# Altium schematic symbol library kmilo17pet-NSC_Switcher.SchLib: 2226 symbols (part 44 of 59)
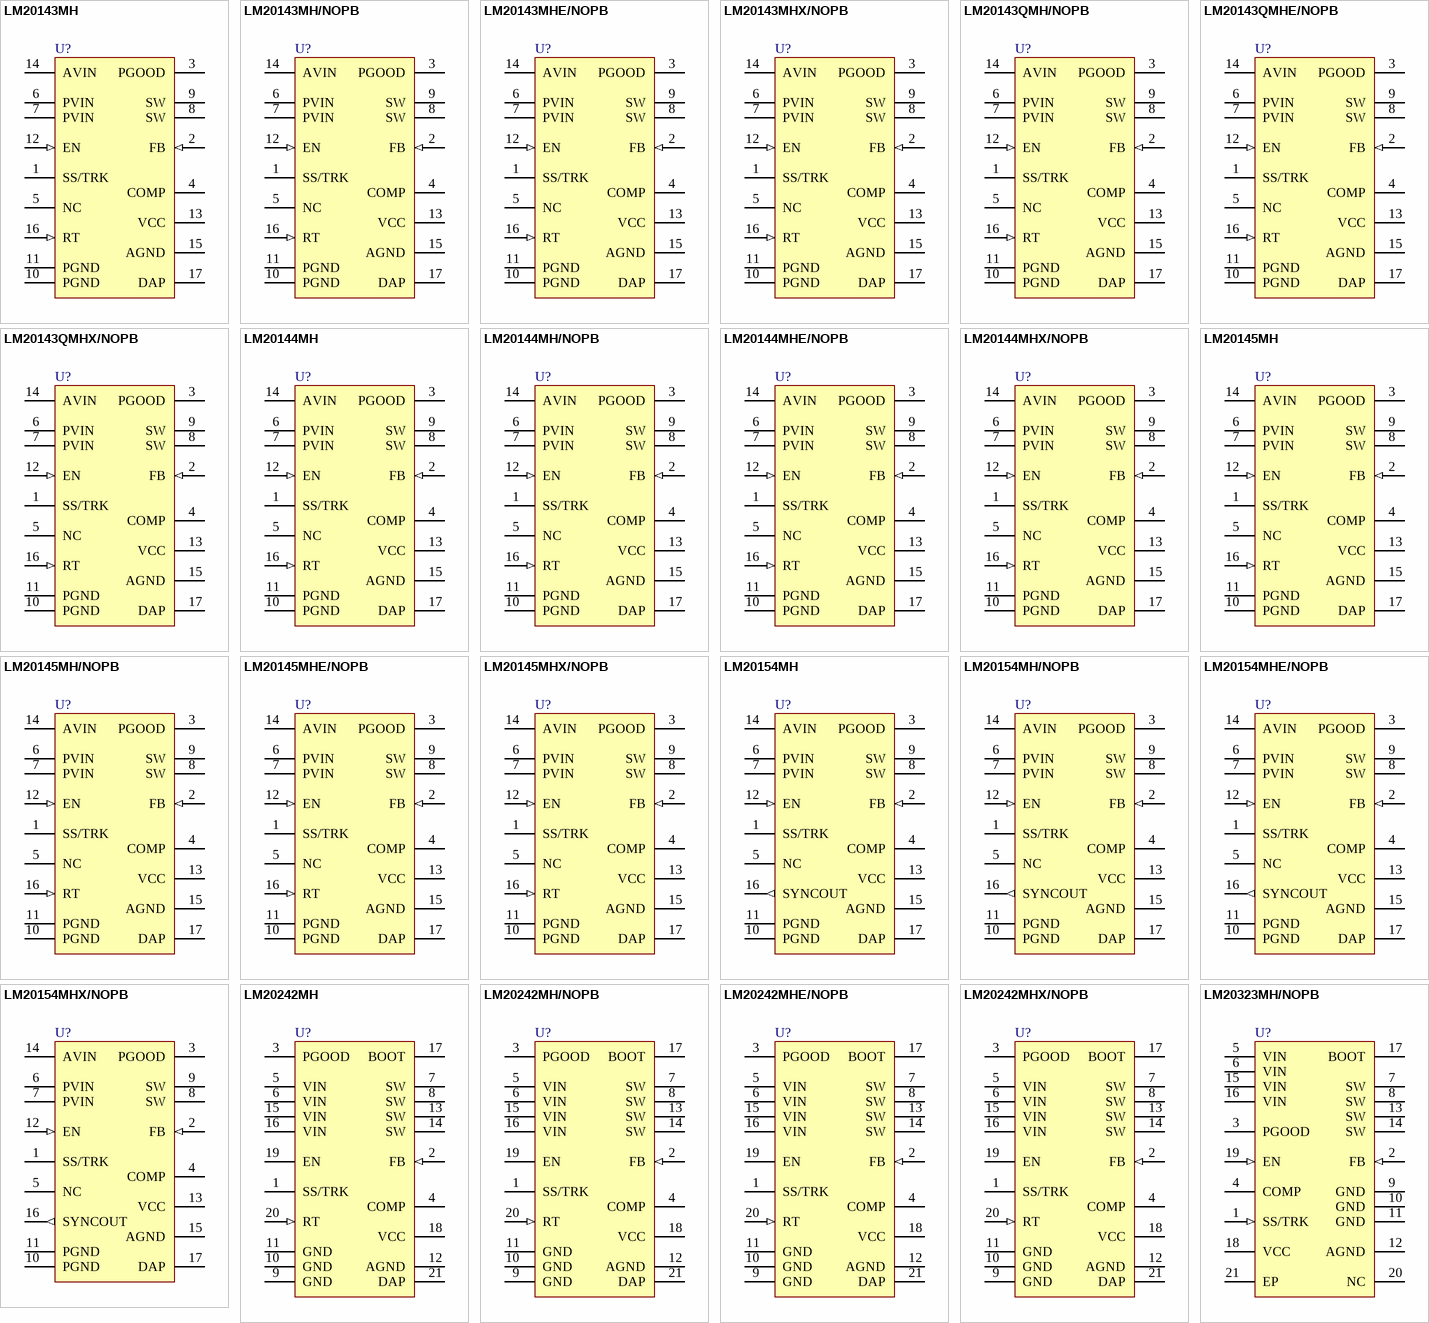
[diagram p112: symbols LM20143MH to LM20323MH/NOPB]

## LM20145MHX/NOPB
designator U?
5A, PowerWise Adjustable Frequency Synchronous Buck Regulator, 16-pin TSSOP-EP, Pb-Free; PartNumber: LM20145MHX/NOPB; Manufacturer: National Semiconductor; PackageTopMarking: NSUZXYTT*20145*MH; PowerWise: Y; CompType: Switcher; DatasheetVersion: Jan-2008; PackageVersion: revA, Apr-2003; PackageReference: MXA16A; PackageDescription: Molded TSSOP, Jedec, Exposed Pad, 5.0 x 4.4 x 0.9mm Body,16 Lead, 0.65mm Pitch; RoHS: Y; PinCount: 16; High-Reliability: Y; Code_JEDEC: MO-153-ABT; ComponentLink1Description: Manufacturer URL; ComponentLink1URL: http://www.national.com/; ComponentLink2Description: LM20145 Datasheet; ComponentLink2URL: http://www.national.com/ds/LM/LM20145.pdf; ComponentLink3Description: LM20145 Web Page; ComponentLink3URL: http://www.national.com/pf/LM/LM20145.html; ComponentLink4Description: MXA16A Package Page; ComponentLink4URL: http://www.national.com/packaging/folders/mxa16a.html
footprint MXA16A_N (TSOP, 16-Leads, Body 5x4.4mm, Pitch 0.65mm, Thermal Pad, IPC Medium Density)
footprint MXA16A_L (TSOP, 16-Leads, Body 5x4.4mm, Pitch 0.65mm, Thermal Pad, IPC High Density)
footprint MXA16A_M (TSOP, 16-Leads, Body 5x4.4mm, Pitch 0.65mm, Thermal Pad, IPC Low Density)
pins: 1 SS/TRK, 2 FB (in), 3 PGOOD (oc), 4 COMP, 5 NC, 6 PVIN (power), 7 PVIN (power), 8 SW (power), 9 SW (power), 10 PGND (power), 11 PGND (power), 12 EN (in), 13 VCC (power), 14 AVIN (power), 15 AGND (power), 16 RT (in), 17 DAP (power)

## LM20154MH
designator U?
4A, 1MHz PowerWise Synchronous Buck Regulator with SYNCOUT, 16-pin TSSOP-EP; PartNumber: LM20154MH; Manufacturer: National Semiconductor; PackageTopMarking: NSUZXYTT*20154*MH; PowerWise: Y; CompType: Switcher; DatasheetVersion: Dec-2008; PackageVersion: revA, Apr-2003; PackageReference: MXA16A; PackageDescription: Molded TSSOP, Jedec, Exposed Pad, 5.0 x 4.4 x 0.9mm Body,16 Lead, 0.65mm Pitch; RoHS: Y; PinCount: 16; High-Reliability: Y; Code_JEDEC: MO-153-ABT; ComponentLink1Description: Manufacturer URL; ComponentLink1URL: http://www.national.com/; ComponentLink2Description: LM20154 Datasheet; ComponentLink2URL: http://www.national.com/ds/LM/LM20154.pdf; ComponentLink3Description: LM20154 Web Page; ComponentLink3URL: http://www.national.com/pf/LM/LM20154.html; ComponentLink4Description: MXA16A Package Page; ComponentLink4URL: http://www.national.com/packaging/folders/mxa16a.html
footprint MXA16A_N (TSOP, 16-Leads, Body 5x4.4mm, Pitch 0.65mm, Thermal Pad, IPC Medium Density)
footprint MXA16A_L (TSOP, 16-Leads, Body 5x4.4mm, Pitch 0.65mm, Thermal Pad, IPC High Density)
footprint MXA16A_M (TSOP, 16-Leads, Body 5x4.4mm, Pitch 0.65mm, Thermal Pad, IPC Low Density)
pins: 1 SS/TRK, 2 FB (in), 3 PGOOD (oc), 4 COMP, 5 NC, 6 PVIN (power), 7 PVIN (power), 8 SW (power), 9 SW (power), 10 PGND (power), 11 PGND (power), 12 EN (in), 13 VCC (power), 14 AVIN (power), 15 AGND (power), 16 SYNCOUT (out), 17 DAP (power)

## LM20154MH/NOPB
designator U?
4A, 1MHz Synchronous Buck Regulator with SYNCOUT, 16-pin TSSOP-EP, Pb-Free; PartNumber: LM20154MH/NOPB; Manufacturer: National Semiconductor; PackageTopMarking: NSUZXYTT*20154*MH; PowerWise: Y; CompType: Switcher; DatasheetVersion: Dec-2008; PackageVersion: revA, Apr-2003; PackageReference: MXA16A; PackageDescription: Molded TSSOP, Jedec, Exposed Pad, 5.0 x 4.4 x 0.9mm Body,16 Lead, 0.65mm Pitch; RoHS: Y; PinCount: 16; High-Reliability: Y; Code_JEDEC: MO-153-ABT; ComponentLink1Description: Manufacturer URL; ComponentLink1URL: http://www.national.com/; ComponentLink2Description: LM20154 Datasheet; ComponentLink2URL: http://www.national.com/ds/LM/LM20154.pdf; ComponentLink3Description: LM20154 Web Page; ComponentLink3URL: http://www.national.com/pf/LM/LM20154.html; ComponentLink4Description: MXA16A Package Page; ComponentLink4URL: http://www.national.com/packaging/folders/mxa16a.html
footprint MXA16A_N (TSOP, 16-Leads, Body 5x4.4mm, Pitch 0.65mm, Thermal Pad, IPC Medium Density)
footprint MXA16A_L (TSOP, 16-Leads, Body 5x4.4mm, Pitch 0.65mm, Thermal Pad, IPC High Density)
footprint MXA16A_M (TSOP, 16-Leads, Body 5x4.4mm, Pitch 0.65mm, Thermal Pad, IPC Low Density)
pins: 1 SS/TRK, 2 FB (in), 3 PGOOD (oc), 4 COMP, 5 NC, 6 PVIN (power), 7 PVIN (power), 8 SW (power), 9 SW (power), 10 PGND (power), 11 PGND (power), 12 EN (in), 13 VCC (power), 14 AVIN (power), 15 AGND (power), 16 SYNCOUT (out), 17 DAP (power)

## LM20154MHE/NOPB
designator U?
4A, 1MHz Synchronous Buck Regulator with SYNCOUT, 16-pin TSSOP-EP, Pb-Free; PartNumber: LM20154MHE/NOPB; Manufacturer: National Semiconductor; PackageTopMarking: NSUZXYTT*20154*MH; PowerWise: Y; CompType: Switcher; DatasheetVersion: Dec-2008; PackageVersion: revA, Apr-2003; PackageReference: MXA16A; PackageDescription: Molded TSSOP, Jedec, Exposed Pad, 5.0 x 4.4 x 0.9mm Body,16 Lead, 0.65mm Pitch; RoHS: Y; PinCount: 16; High-Reliability: Y; Code_JEDEC: MO-153-ABT; ComponentLink1Description: Manufacturer URL; ComponentLink1URL: http://www.national.com/; ComponentLink2Description: LM20154 Datasheet; ComponentLink2URL: http://www.national.com/ds/LM/LM20154.pdf; ComponentLink3Description: LM20154 Web Page; ComponentLink3URL: http://www.national.com/pf/LM/LM20154.html; ComponentLink4Description: MXA16A Package Page; ComponentLink4URL: http://www.national.com/packaging/folders/mxa16a.html
footprint MXA16A_N (TSOP, 16-Leads, Body 5x4.4mm, Pitch 0.65mm, Thermal Pad, IPC Medium Density)
footprint MXA16A_L (TSOP, 16-Leads, Body 5x4.4mm, Pitch 0.65mm, Thermal Pad, IPC High Density)
footprint MXA16A_M (TSOP, 16-Leads, Body 5x4.4mm, Pitch 0.65mm, Thermal Pad, IPC Low Density)
pins: 1 SS/TRK, 2 FB (in), 3 PGOOD (oc), 4 COMP, 5 NC, 6 PVIN (power), 7 PVIN (power), 8 SW (power), 9 SW (power), 10 PGND (power), 11 PGND (power), 12 EN (in), 13 VCC (power), 14 AVIN (power), 15 AGND (power), 16 SYNCOUT (out), 17 DAP (power)

## LM20154MHX/NOPB
designator U?
4A, 1MHz Synchronous Buck Regulator with SYNCOUT, 16-pin TSSOP-EP, Pb-Free; PartNumber: LM20154MHX/NOPB; Manufacturer: National Semiconductor; PackageTopMarking: NSUZXYTT*20154*MH; PowerWise: Y; CompType: Switcher; DatasheetVersion: Dec-2008; PackageVersion: revA, Apr-2003; PackageReference: MXA16A; PackageDescription: Molded TSSOP, Jedec, Exposed Pad, 5.0 x 4.4 x 0.9mm Body,16 Lead, 0.65mm Pitch; RoHS: Y; PinCount: 16; High-Reliability: Y; Code_JEDEC: MO-153-ABT; ComponentLink1Description: Manufacturer URL; ComponentLink1URL: http://www.national.com/; ComponentLink2Description: LM20154 Datasheet; ComponentLink2URL: http://www.national.com/ds/LM/LM20154.pdf; ComponentLink3Description: LM20154 Web Page; ComponentLink3URL: http://www.national.com/pf/LM/LM20154.html; ComponentLink4Description: MXA16A Package Page; ComponentLink4URL: http://www.national.com/packaging/folders/mxa16a.html
footprint MXA16A_N (TSOP, 16-Leads, Body 5x4.4mm, Pitch 0.65mm, Thermal Pad, IPC Medium Density)
footprint MXA16A_L (TSOP, 16-Leads, Body 5x4.4mm, Pitch 0.65mm, Thermal Pad, IPC High Density)
footprint MXA16A_M (TSOP, 16-Leads, Body 5x4.4mm, Pitch 0.65mm, Thermal Pad, IPC Low Density)
pins: 1 SS/TRK, 2 FB (in), 3 PGOOD (oc), 4 COMP, 5 NC, 6 PVIN (power), 7 PVIN (power), 8 SW (power), 9 SW (power), 10 PGND (power), 11 PGND (power), 12 EN (in), 13 VCC (power), 14 AVIN (power), 15 AGND (power), 16 SYNCOUT (out), 17 DAP (power)

## LM20242MH
designator U?
36V, 2A PowerWise Adjustable Frequency Synchronous Buck Regulator, 20-pin TSSOP-EP; PartNumber: LM20242MH; Manufacturer: National Semiconductor; PackageTopMarking: NSUZXYTT*20242*MH; PowerWise: Y; CompType: Switcher; DatasheetVersion: May-2008; PackageVersion: revC, Jul-2006; PackageReference: MXA20A; PackageDescription: Molded TSSOP, Jedec, 6.5 x 4.4 x 0.9mm Body, 20 Lead, 0.65mm Pitch, Exposed Pad; RoHS: Y; PinCount: 20; High-Reliability: Y; Code_JEDEC: MO-153-ACT; ComponentLink1Description: Manufacturer URL; ComponentLink1URL: http://www.national.com/; ComponentLink2Description: LM20242 Datasheet; ComponentLink2URL: http://www.national.com/ds/LM/LM20242.pdf; ComponentLink3Description: LM20242 Web Page; ComponentLink3URL: http://www.national.com/pf/LM/LM20242.html; ComponentLink4Description: MXA20A Package Page; ComponentLink4URL: http://www.national.com/packaging/folders/mxa20a.html
footprint MXA20A_N (TSOP, 20-Leads, Body 6.5x4.4mm, Pitch 0.65mm, Thermal Pad, IPC Medium Density)
footprint MXA20A_L (TSOP, 20-Leads, Body 6.5x4.4mm, Pitch 0.65mm, Thermal Pad, IPC High Density)
footprint MXA20A_M (TSOP, 20-Leads, Body 6.5x4.4mm, Pitch 0.65mm, Thermal Pad, IPC Low Density)
pins: 1 SS/TRK, 2 FB (in), 3 PGOOD (oc), 4 COMP, 5 VIN (power), 6 VIN (power), 7 SW (power), 8 SW (power), 9 GND (power), 10 GND (power), 11 GND (power), 12 AGND (power), 13 SW (power), 14 SW (power), 15 VIN (power), 16 VIN (power), 17 BOOT, 18 VCC (power), 19 EN, 20 RT (in), 21 DAP (power)

## LM20242MH/NOPB
designator U?
36V, 2A PowerWise Adjustable Frequency Synchronous Buck Regulator, 20-pin TSSOP-EP, Pb-Free; PartNumber: LM20242MH/NOPB; Manufacturer: National Semiconductor; PackageTopMarking: NSUZXYTT*20242*MH; PowerWise: Y; CompType: Switcher; DatasheetVersion: May-2008; PackageVersion: revC, Jul-2006; PackageReference: MXA20A; PackageDescription: Molded TSSOP, Jedec, 6.5 x 4.4 x 0.9mm Body, 20 Lead, 0.65mm Pitch, Exposed Pad; RoHS: Y; PinCount: 20; High-Reliability: Y; Code_JEDEC: MO-153-ACT; ComponentLink1Description: Manufacturer URL; ComponentLink1URL: http://www.national.com/; ComponentLink2Description: LM20242 Datasheet; ComponentLink2URL: http://www.national.com/ds/LM/LM20242.pdf; ComponentLink3Description: LM20242 Web Page; ComponentLink3URL: http://www.national.com/pf/LM/LM20242.html; ComponentLink4Description: MXA20A Package Page; ComponentLink4URL: http://www.national.com/packaging/folders/mxa20a.html
footprint MXA20A_N (TSOP, 20-Leads, Body 6.5x4.4mm, Pitch 0.65mm, Thermal Pad, IPC Medium Density)
footprint MXA20A_L (TSOP, 20-Leads, Body 6.5x4.4mm, Pitch 0.65mm, Thermal Pad, IPC High Density)
footprint MXA20A_M (TSOP, 20-Leads, Body 6.5x4.4mm, Pitch 0.65mm, Thermal Pad, IPC Low Density)
pins: 1 SS/TRK, 2 FB (in), 3 PGOOD (oc), 4 COMP, 5 VIN (power), 6 VIN (power), 7 SW (power), 8 SW (power), 9 GND (power), 10 GND (power), 11 GND (power), 12 AGND (power), 13 SW (power), 14 SW (power), 15 VIN (power), 16 VIN (power), 17 BOOT, 18 VCC (power), 19 EN, 20 RT (in), 21 DAP (power)

## LM20242MHE/NOPB
designator U?
36V, 2A PowerWise Adjustable Frequency Synchronous Buck Regulator, 20-pin TSSOP-EP, Pb-Free; PartNumber: LM20242MHE/NOPB; Manufacturer: National Semiconductor; PackageTopMarking: NSUZXYTT*20242*MH; PowerWise: Y; CompType: Switcher; DatasheetVersion: May-2008; PackageVersion: revC, Jul-2006; PackageReference: MXA20A; PackageDescription: Molded TSSOP, Jedec, 6.5 x 4.4 x 0.9mm Body, 20 Lead, 0.65mm Pitch, Exposed Pad; RoHS: Y; PinCount: 20; High-Reliability: Y; Code_JEDEC: MO-153-ACT; ComponentLink1Description: Manufacturer URL; ComponentLink1URL: http://www.national.com/; ComponentLink2Description: LM20242 Datasheet; ComponentLink2URL: http://www.national.com/ds/LM/LM20242.pdf; ComponentLink3Description: LM20242 Web Page; ComponentLink3URL: http://www.national.com/pf/LM/LM20242.html; ComponentLink4Description: MXA20A Package Page; ComponentLink4URL: http://www.national.com/packaging/folders/mxa20a.html
footprint MXA20A_N (TSOP, 20-Leads, Body 6.5x4.4mm, Pitch 0.65mm, Thermal Pad, IPC Medium Density)
footprint MXA20A_L (TSOP, 20-Leads, Body 6.5x4.4mm, Pitch 0.65mm, Thermal Pad, IPC High Density)
footprint MXA20A_M (TSOP, 20-Leads, Body 6.5x4.4mm, Pitch 0.65mm, Thermal Pad, IPC Low Density)
pins: 1 SS/TRK, 2 FB (in), 3 PGOOD (oc), 4 COMP, 5 VIN (power), 6 VIN (power), 7 SW (power), 8 SW (power), 9 GND (power), 10 GND (power), 11 GND (power), 12 AGND (power), 13 SW (power), 14 SW (power), 15 VIN (power), 16 VIN (power), 17 BOOT, 18 VCC (power), 19 EN, 20 RT (in), 21 DAP (power)

## LM20242MHX/NOPB
designator U?
36V, 2A PowerWise Adjustable Frequency Synchronous Buck Regulator, 20-pin TSSOP-EP, Pb-Free; PartNumber: LM20242MHX/NOPB; Manufacturer: National Semiconductor; PackageTopMarking: NSUZXYTT*20242*MH; PowerWise: Y; CompType: Switcher; DatasheetVersion: May-2008; PackageVersion: revC, Jul-2006; PackageReference: MXA20A; PackageDescription: Molded TSSOP, Jedec, 6.5 x 4.4 x 0.9mm Body, 20 Lead, 0.65mm Pitch, Exposed Pad; RoHS: Y; PinCount: 20; High-Reliability: Y; Code_JEDEC: MO-153-ACT; ComponentLink1Description: Manufacturer URL; ComponentLink1URL: http://www.national.com/; ComponentLink2Description: LM20242 Datasheet; ComponentLink2URL: http://www.national.com/ds/LM/LM20242.pdf; ComponentLink3Description: LM20242 Web Page; ComponentLink3URL: http://www.national.com/pf/LM/LM20242.html; ComponentLink4Description: MXA20A Package Page; ComponentLink4URL: http://www.national.com/packaging/folders/mxa20a.html
footprint MXA20A_N (TSOP, 20-Leads, Body 6.5x4.4mm, Pitch 0.65mm, Thermal Pad, IPC Medium Density)
footprint MXA20A_L (TSOP, 20-Leads, Body 6.5x4.4mm, Pitch 0.65mm, Thermal Pad, IPC High Density)
footprint MXA20A_M (TSOP, 20-Leads, Body 6.5x4.4mm, Pitch 0.65mm, Thermal Pad, IPC Low Density)
pins: 1 SS/TRK, 2 FB (in), 3 PGOOD (oc), 4 COMP, 5 VIN (power), 6 VIN (power), 7 SW (power), 8 SW (power), 9 GND (power), 10 GND (power), 11 GND (power), 12 AGND (power), 13 SW (power), 14 SW (power), 15 VIN (power), 16 VIN (power), 17 BOOT, 18 VCC (power), 19 EN, 20 RT (in), 21 DAP (power)

## LM20323MH/NOPB
designator U?
36V, 3A 500 kHz Synchronous Buck Regulator, 20-pin TSSOP-EP, Pb-Free; PartNumber: LM20323MH/NOPB; Manufacturer: National Semiconductor; PackageTopMarking: NSUZXYTT*20323MH; PowerWise: Y; CompType: Switcher; DatasheetVersion: Jun-2008; PackageVersion: revC, Jul-2006; PackageReference: MXA20A; PackageDescription: Molded TSSOP, Jedec, 6.5 x 4.4 x 0.9mm Body, 20 Lead, 0.65mm Pitch, Exposed Pad; RoHS: Y; PinCount: 20; High-Reliability: Y; Code_JEDEC: MO-153-ACT; ComponentLink1Description: Manufacturer URL; ComponentLink1URL: http://www.national.com/; ComponentLink2Description: LM20323 Datasheet; ComponentLink2URL: http://www.national.com/ds/LM/LM20323.pdf; ComponentLink3Description: LM20323 Web Page; ComponentLink3URL: http://www.national.com/pf/LM/LM20323.html; ComponentLink4Description: MXA20A Package Page; ComponentLink4URL: http://www.national.com/packaging/folders/mxa20a.html
footprint MXA20A_N (TSOP, 20-Leads, Body 6.5x4.4mm, Pitch 0.65mm, Thermal Pad, IPC Medium Density)
footprint MXA20A_L (TSOP, 20-Leads, Body 6.5x4.4mm, Pitch 0.65mm, Thermal Pad, IPC High Density)
footprint MXA20A_M (TSOP, 20-Leads, Body 6.5x4.4mm, Pitch 0.65mm, Thermal Pad, IPC Low Density)
pins: 1 SS/TRK (in), 2 FB (in), 3 PGOOD (oc), 4 COMP, 5 VIN (power), 6 VIN (power), 7 SW (power), 8 SW (power), 9 GND (power), 10 GND (power), 11 GND (power), 12 AGND (power), 13 SW (power), 14 SW (power), 15 VIN (power), 16 VIN (power), 17 BOOT, 18 VCC (power), 19 EN (in), 20 NC, 21 EP (power)

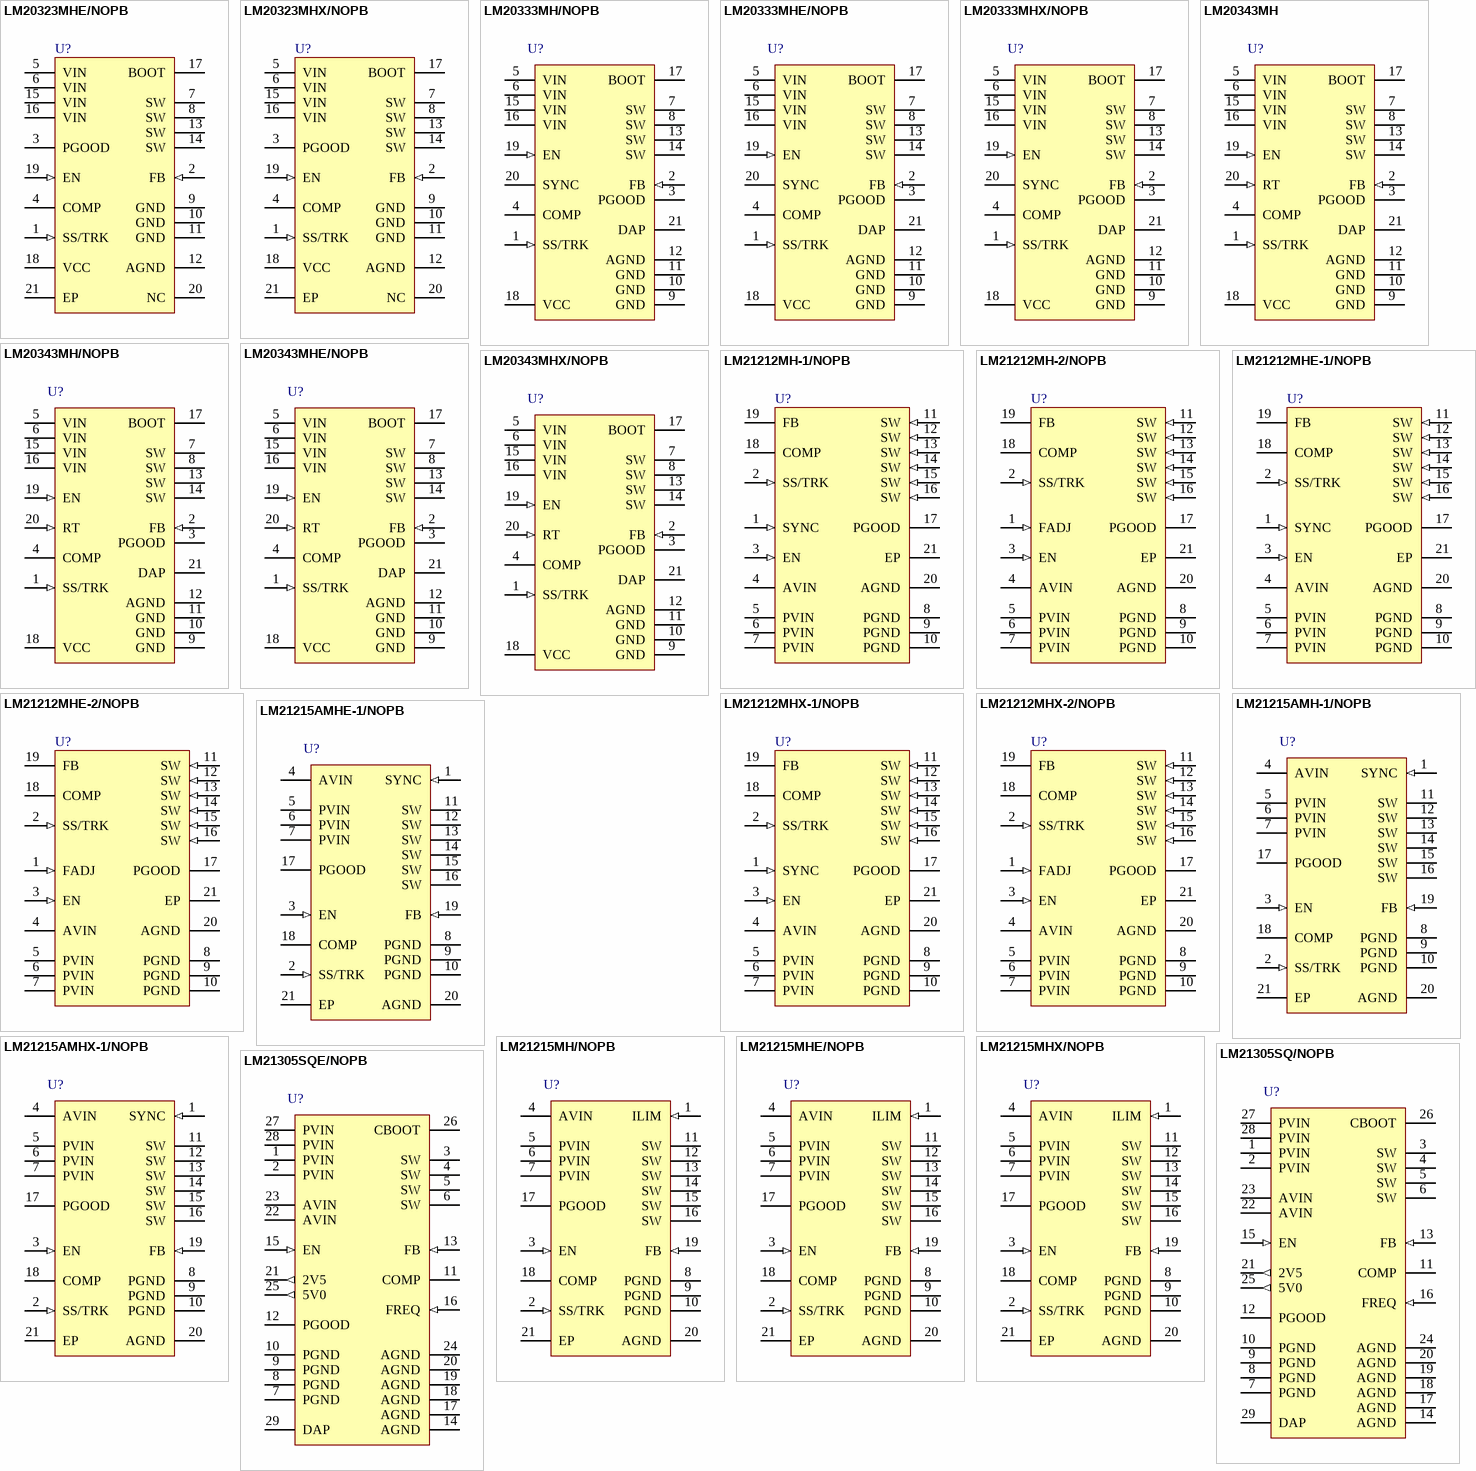
[diagram p50: symbols LM20323MHE/NOPB to LM21305SQE/NOPB]

## LM20323MHE/NOPB
designator U?
36V,3A 500 kHz Synchronous Buck Regulator, 20-pin TSSOP-EP, Pb-Free; PartNumber: LM20323MHE/NOPB; Manufacturer: National Semiconductor; PackageTopMarking: NSUZXYTT*20323MH; PowerWise: Y; CompType: Switcher; DatasheetVersion: Jun-2008; PackageVersion: revC, Jul-2006; PackageReference: MXA20A; PackageDescription: Molded TSSOP, Jedec, 6.5 x 4.4 x 0.9mm Body, 20 Lead, 0.65mm Pitch, Exposed Pad; RoHS: Y; PinCount: 20; High-Reliability: Y; Code_JEDEC: MO-153-ACT; ComponentLink1Description: Manufacturer URL; ComponentLink1URL: http://www.national.com/; ComponentLink2Description: LM20323 Datasheet; ComponentLink2URL: http://www.national.com/ds/LM/LM20323.pdf; ComponentLink3Description: LM20323 Web Page; ComponentLink3URL: http://www.national.com/pf/LM/LM20323.html; ComponentLink4Description: MXA20A Package Page; ComponentLink4URL: http://www.national.com/packaging/folders/mxa20a.html
footprint MXA20A_N (TSOP, 20-Leads, Body 6.5x4.4mm, Pitch 0.65mm, Thermal Pad, IPC Medium Density)
footprint MXA20A_L (TSOP, 20-Leads, Body 6.5x4.4mm, Pitch 0.65mm, Thermal Pad, IPC High Density)
footprint MXA20A_M (TSOP, 20-Leads, Body 6.5x4.4mm, Pitch 0.65mm, Thermal Pad, IPC Low Density)
pins: 1 SS/TRK (in), 2 FB (in), 3 PGOOD (oc), 4 COMP, 5 VIN (power), 6 VIN (power), 7 SW (power), 8 SW (power), 9 GND (power), 10 GND (power), 11 GND (power), 12 AGND (power), 13 SW (power), 14 SW (power), 15 VIN (power), 16 VIN (power), 17 BOOT, 18 VCC (power), 19 EN (in), 20 NC, 21 EP (power)

## LM20323MHX/NOPB
designator U?
36V,3A 500 kHz Synchronous Buck Regulator, 20-pin TSSOP-EP, Pb-Free; PartNumber: LM20323MHX/NOPB; Manufacturer: National Semiconductor; PackageTopMarking: NSUZXYTT*20323MH; PowerWise: Y; CompType: Switcher; DatasheetVersion: Jun-2008; PackageVersion: revC, Jul-2006; PackageReference: MXA20A; PackageDescription: Molded TSSOP, Jedec, 6.5 x 4.4 x 0.9mm Body, 20 Lead, 0.65mm Pitch, Exposed Pad; RoHS: Y; PinCount: 20; High-Reliability: Y; Code_JEDEC: MO-153-ACT; ComponentLink1Description: Manufacturer URL; ComponentLink1URL: http://www.national.com/; ComponentLink2Description: LM20323 Datasheet; ComponentLink2URL: http://www.national.com/ds/LM/LM20323.pdf; ComponentLink3Description: LM20323 Web Page; ComponentLink3URL: http://www.national.com/pf/LM/LM20323.html; ComponentLink4Description: MXA20A Package Page; ComponentLink4URL: http://www.national.com/packaging/folders/mxa20a.html
footprint MXA20A_N (TSOP, 20-Leads, Body 6.5x4.4mm, Pitch 0.65mm, Thermal Pad, IPC Medium Density)
footprint MXA20A_L (TSOP, 20-Leads, Body 6.5x4.4mm, Pitch 0.65mm, Thermal Pad, IPC High Density)
footprint MXA20A_M (TSOP, 20-Leads, Body 6.5x4.4mm, Pitch 0.65mm, Thermal Pad, IPC Low Density)
pins: 1 SS/TRK (in), 2 FB (in), 3 PGOOD (oc), 4 COMP, 5 VIN (power), 6 VIN (power), 7 SW (power), 8 SW (power), 9 GND (power), 10 GND (power), 11 GND (power), 12 AGND (power), 13 SW (power), 14 SW (power), 15 VIN (power), 16 VIN (power), 17 BOOT, 18 VCC (power), 19 EN (in), 20 NC, 21 EP (power)

## LM20333MH/NOPB
designator U?
36V, 3A Synchronous Buck Regulator with Frequency Synchronization, 20-pin TSSOP-EP, Pb-Free; PartNumber: LM20333MH/NOPB; Manufacturer: National Semiconductor; PackageTopMarking: NSUZXYTT*20333MH; PowerWise: Y; CompType: Switcher; DatasheetVersion: Jun-2008; PackageVersion: revC, Jul-2006; PackageReference: MXA20A; PackageDescription: Molded TSSOP, Jedec, 6.5 x 4.4 x 0.9mm Body, 20 Lead, 0.65mm Pitch, Exposed Pad; RoHS: Y; PinCount: 20; High-Reliability: Y; Code_JEDEC: MO-153-ACT; ComponentLink1Description: Manufacturer URL; ComponentLink1URL: http://www.national.com/; ComponentLink2Description: LM20333 Datasheet; ComponentLink2URL: http://www.national.com/ds/LM/LM20333.pdf; ComponentLink3Description: LM20333 Web Page; ComponentLink3URL: http://www.national.com/pf/LM/LM20333.html; ComponentLink4Description: MXA20A Package Page; ComponentLink4URL: http://www.national.com/packaging/folders/mxa20a.html
footprint MXA20A_N (TSOP, 20-Leads, Body 6.5x4.4mm, Pitch 0.65mm, Thermal Pad, IPC Medium Density)
footprint MXA20A_L (TSOP, 20-Leads, Body 6.5x4.4mm, Pitch 0.65mm, Thermal Pad, IPC High Density)
footprint MXA20A_M (TSOP, 20-Leads, Body 6.5x4.4mm, Pitch 0.65mm, Thermal Pad, IPC Low Density)
pins: 1 SS/TRK (in), 2 FB (in), 3 PGOOD (oc), 4 COMP, 5 VIN (power), 6 VIN (power), 7 SW (power), 8 SW (power), 9 GND (power), 10 GND (power), 11 GND (power), 12 AGND (power), 13 SW (power), 14 SW (power), 15 VIN (power), 16 VIN (power), 17 BOOT, 18 VCC (power), 19 EN (in), 20 SYNC, 21 DAP (power)

## LM20333MHE/NOPB
designator U?
36V, 3A Synchronous Buck Regulator with Frequency Synchronization, 20-pin TSSOP-EP, Pb-Free; PartNumber: LM20333MHE/NOPB; Manufacturer: National Semiconductor; PackageTopMarking: NSUZXYTT*20333MH; PowerWise: Y; CompType: Switcher; DatasheetVersion: Jun-2008; PackageVersion: revC, Jul-2006; PackageReference: MXA20A; PackageDescription: Molded TSSOP, Jedec, 6.5 x 4.4 x 0.9mm Body, 20 Lead, 0.65mm Pitch, Exposed Pad; RoHS: Y; PinCount: 20; High-Reliability: Y; Code_JEDEC: MO-153-ACT; ComponentLink1Description: Manufacturer URL; ComponentLink1URL: http://www.national.com/; ComponentLink2Description: LM20333 Datasheet; ComponentLink2URL: http://www.national.com/ds/LM/LM20333.pdf; ComponentLink3Description: LM20333 Web Page; ComponentLink3URL: http://www.national.com/pf/LM/LM20333.html; ComponentLink4Description: MXA20A Package Page; ComponentLink4URL: http://www.national.com/packaging/folders/mxa20a.html
footprint MXA20A_N (TSOP, 20-Leads, Body 6.5x4.4mm, Pitch 0.65mm, Thermal Pad, IPC Medium Density)
footprint MXA20A_L (TSOP, 20-Leads, Body 6.5x4.4mm, Pitch 0.65mm, Thermal Pad, IPC High Density)
footprint MXA20A_M (TSOP, 20-Leads, Body 6.5x4.4mm, Pitch 0.65mm, Thermal Pad, IPC Low Density)
pins: 1 SS/TRK (in), 2 FB (in), 3 PGOOD (oc), 4 COMP, 5 VIN (power), 6 VIN (power), 7 SW (power), 8 SW (power), 9 GND (power), 10 GND (power), 11 GND (power), 12 AGND (power), 13 SW (power), 14 SW (power), 15 VIN (power), 16 VIN (power), 17 BOOT, 18 VCC (power), 19 EN (in), 20 SYNC, 21 DAP (power)

## LM20333MHX/NOPB
designator U?
36V, 3A Synchronous Buck Regulator with Frequency Synchronization, 20-pin TSSOP-EP, Pb-Free; PartNumber: LM20333MHX/NOPB; Manufacturer: National Semiconductor; PackageTopMarking: NSUZXYTT*20333MH; PowerWise: Y; CompType: Switcher; DatasheetVersion: Jun-2008; PackageVersion: revC, Jul-2006; PackageReference: MXA20A; PackageDescription: Molded TSSOP, Jedec, 6.5 x 4.4 x 0.9mm Body, 20 Lead, 0.65mm Pitch, Exposed Pad; RoHS: Y; PinCount: 20; High-Reliability: Y; Code_JEDEC: MO-153-ACT; ComponentLink1Description: Manufacturer URL; ComponentLink1URL: http://www.national.com/; ComponentLink2Description: LM20333 Datasheet; ComponentLink2URL: http://www.national.com/ds/LM/LM20333.pdf; ComponentLink3Description: LM20333 Web Page; ComponentLink3URL: http://www.national.com/pf/LM/LM20333.html; ComponentLink4Description: MXA20A Package Page; ComponentLink4URL: http://www.national.com/packaging/folders/mxa20a.html
footprint MXA20A_N (TSOP, 20-Leads, Body 6.5x4.4mm, Pitch 0.65mm, Thermal Pad, IPC Medium Density)
footprint MXA20A_L (TSOP, 20-Leads, Body 6.5x4.4mm, Pitch 0.65mm, Thermal Pad, IPC High Density)
footprint MXA20A_M (TSOP, 20-Leads, Body 6.5x4.4mm, Pitch 0.65mm, Thermal Pad, IPC Low Density)
pins: 1 SS/TRK (in), 2 FB (in), 3 PGOOD (oc), 4 COMP, 5 VIN (power), 6 VIN (power), 7 SW (power), 8 SW (power), 9 GND (power), 10 GND (power), 11 GND (power), 12 AGND (power), 13 SW (power), 14 SW (power), 15 VIN (power), 16 VIN (power), 17 BOOT, 18 VCC (power), 19 EN (in), 20 SYNC, 21 DAP (power)

## LM20343MH
designator U?
36V, 3A Adjustable Frequency Synchronous Buck Regulator, 20-pin TSSOP-EP; PartNumber: LM20343MH; Manufacturer: National Semiconductor; PackageTopMarking: NSUZXYTT*20343MH; PowerWise: Y; CompType: Switcher; DatasheetVersion: Aug-2008; PackageVersion: revC, Jul-2006; PackageReference: MXA20A; PackageDescription: Molded TSSOP, Jedec, 6.5 x 4.4 x 0.9mm Body, 20 Lead, 0.65mm Pitch, Exposed Pad; RoHS: Y; PinCount: 20; High-Reliability: Y; Code_JEDEC: MO-153-ACT; ComponentLink1Description: Manufacturer URL; ComponentLink1URL: http://www.national.com/; ComponentLink2Description: LM20343 Datasheet; ComponentLink2URL: http://www.national.com/ds/LM/LM20343.pdf; ComponentLink3Description: LM20343 Web Page; ComponentLink3URL: http://www.national.com/pf/LM/LM20343.html; ComponentLink4Description: MXA20A Package Page; ComponentLink4URL: http://www.national.com/packaging/folders/mxa20a.html
footprint MXA20A_N (TSOP, 20-Leads, Body 6.5x4.4mm, Pitch 0.65mm, Thermal Pad, IPC Medium Density)
footprint MXA20A_L (TSOP, 20-Leads, Body 6.5x4.4mm, Pitch 0.65mm, Thermal Pad, IPC High Density)
footprint MXA20A_M (TSOP, 20-Leads, Body 6.5x4.4mm, Pitch 0.65mm, Thermal Pad, IPC Low Density)
pins: 1 SS/TRK (in), 2 FB (in), 3 PGOOD (oc), 4 COMP, 5 VIN (power), 6 VIN (power), 7 SW (power), 8 SW (power), 9 GND (power), 10 GND (power), 11 GND (power), 12 AGND (power), 13 SW (power), 14 SW (power), 15 VIN (power), 16 VIN (power), 17 BOOT, 18 VCC (power), 19 EN (in), 20 RT (in), 21 DAP (power)

## LM20343MH/NOPB
designator U?
36V, 3A Adjustable Frequency Synchronous Buck Regulator, 20-pin TSSOP-EP, Pb-Free; PartNumber: LM20343MH/NOPB; Manufacturer: National Semiconductor; PackageTopMarking: NSUZXYTT*20343MH; PowerWise: Y; CompType: Switcher; DatasheetVersion: Aug-2008; PackageVersion: revC, Jul-2006; PackageReference: MXA20A; PackageDescription: Molded TSSOP, Jedec, 6.5 x 4.4 x 0.9mm Body, 20 Lead, 0.65mm Pitch, Exposed Pad; RoHS: Y; PinCount: 20; High-Reliability: Y; Code_JEDEC: MO-153-ACT; ComponentLink1Description: Manufacturer URL; ComponentLink1URL: http://www.national.com/; ComponentLink2Description: LM20343 Datasheet; ComponentLink2URL: http://www.national.com/ds/LM/LM20343.pdf; ComponentLink3Description: LM20343 Web Page; ComponentLink3URL: http://www.national.com/pf/LM/LM20343.html; ComponentLink4Description: MXA20A Package Page; ComponentLink4URL: http://www.national.com/packaging/folders/mxa20a.html
footprint MXA20A_N (TSOP, 20-Leads, Body 6.5x4.4mm, Pitch 0.65mm, Thermal Pad, IPC Medium Density)
footprint MXA20A_L (TSOP, 20-Leads, Body 6.5x4.4mm, Pitch 0.65mm, Thermal Pad, IPC High Density)
footprint MXA20A_M (TSOP, 20-Leads, Body 6.5x4.4mm, Pitch 0.65mm, Thermal Pad, IPC Low Density)
pins: 1 SS/TRK (in), 2 FB (in), 3 PGOOD (oc), 4 COMP, 5 VIN (power), 6 VIN (power), 7 SW (power), 8 SW (power), 9 GND (power), 10 GND (power), 11 GND (power), 12 AGND (power), 13 SW (power), 14 SW (power), 15 VIN (power), 16 VIN (power), 17 BOOT, 18 VCC (power), 19 EN (in), 20 RT (in), 21 DAP (power)

## LM20343MHE/NOPB
designator U?
36V, 3A Adjustable Frequency Synchronous Buck Regulator, 20-pin TSSOP-EP, Pb-Free; PartNumber: LM20343MHE/NOPB; Manufacturer: National Semiconductor; PackageTopMarking: NSUZXYTT*20343MH; PowerWise: Y; CompType: Switcher; DatasheetVersion: Aug-2008; PackageVersion: revC, Jul-2006; PackageReference: MXA20A; PackageDescription: Molded TSSOP, Jedec, 6.5 x 4.4 x 0.9mm Body, 20 Lead, 0.65mm Pitch, Exposed Pad; RoHS: Y; PinCount: 20; High-Reliability: Y; Code_JEDEC: MO-153-ACT; ComponentLink1Description: Manufacturer URL; ComponentLink1URL: http://www.national.com/; ComponentLink2Description: LM20343 Datasheet; ComponentLink2URL: http://www.national.com/ds/LM/LM20343.pdf; ComponentLink3Description: LM20343 Web Page; ComponentLink3URL: http://www.national.com/pf/LM/LM20343.html; ComponentLink4Description: MXA20A Package Page; ComponentLink4URL: http://www.national.com/packaging/folders/mxa20a.html
footprint MXA20A_N (TSOP, 20-Leads, Body 6.5x4.4mm, Pitch 0.65mm, Thermal Pad, IPC Medium Density)
footprint MXA20A_L (TSOP, 20-Leads, Body 6.5x4.4mm, Pitch 0.65mm, Thermal Pad, IPC High Density)
footprint MXA20A_M (TSOP, 20-Leads, Body 6.5x4.4mm, Pitch 0.65mm, Thermal Pad, IPC Low Density)
pins: 1 SS/TRK (in), 2 FB (in), 3 PGOOD (oc), 4 COMP, 5 VIN (power), 6 VIN (power), 7 SW (power), 8 SW (power), 9 GND (power), 10 GND (power), 11 GND (power), 12 AGND (power), 13 SW (power), 14 SW (power), 15 VIN (power), 16 VIN (power), 17 BOOT, 18 VCC (power), 19 EN (in), 20 RT (in), 21 DAP (power)

## LM20343MHX/NOPB
designator U?
36V, 3A Adjustable Frequency Synchronous Buck Regulator, 20-pin TSSOP-EP, Pb-Free; PartNumber: LM20343MHX/NOPB; Manufacturer: National Semiconductor; PackageTopMarking: NSUZXYTT*20343MH; PowerWise: Y; CompType: Switcher; DatasheetVersion: Aug-2008; PackageVersion: revC, Jul-2006; PackageReference: MXA20A; PackageDescription: Molded TSSOP, Jedec, 6.5 x 4.4 x 0.9mm Body, 20 Lead, 0.65mm Pitch, Exposed Pad; RoHS: Y; PinCount: 20; High-Reliability: Y; Code_JEDEC: MO-153-ACT; ComponentLink1Description: Manufacturer URL; ComponentLink1URL: http://www.national.com/; ComponentLink2Description: LM20343 Datasheet; ComponentLink2URL: http://www.national.com/ds/LM/LM20343.pdf; ComponentLink3Description: LM20343 Web Page; ComponentLink3URL: http://www.national.com/pf/LM/LM20343.html; ComponentLink4Description: MXA20A Package Page; ComponentLink4URL: http://www.national.com/packaging/folders/mxa20a.html
footprint MXA20A_N (TSOP, 20-Leads, Body 6.5x4.4mm, Pitch 0.65mm, Thermal Pad, IPC Medium Density)
footprint MXA20A_L (TSOP, 20-Leads, Body 6.5x4.4mm, Pitch 0.65mm, Thermal Pad, IPC High Density)
footprint MXA20A_M (TSOP, 20-Leads, Body 6.5x4.4mm, Pitch 0.65mm, Thermal Pad, IPC Low Density)
pins: 1 SS/TRK (in), 2 FB (in), 3 PGOOD (oc), 4 COMP, 5 VIN (power), 6 VIN (power), 7 SW (power), 8 SW (power), 9 GND (power), 10 GND (power), 11 GND (power), 12 AGND (power), 13 SW (power), 14 SW (power), 15 VIN (power), 16 VIN (power), 17 BOOT, 18 VCC (power), 19 EN (in), 20 RT (in), 21 DAP (power)

## LM21212MH-1/NOPB
designator U?
12A High Efficiency Synchronous Buck Regulator with Frequency Synchronization, 20-pin TSSOP-EP, 73 Rail; PartNumber: LM21212MH-1/NOPB; Manufacturer: National Semiconductor; PackageTopMarking: NSUZXYTT*LM21212*MH-1; PowerWise: Y; CompType: Switcher; DatasheetVersion: Feb-2011; PackageVersion: revD, 2011; PackageReference: MYB20AA; PackageDescription: 20-Pin eTSSOP, 6.5 x 4.4 mm Body ,0.65 mm Pitch, Exposed Pad; RoHS: Y; PinCount: 20; High-Reliability: Y; ComponentLink1Description: Manufacturer URL; ComponentLink1URL: http://www.national.com/; ComponentLink2Description: LM21212-1 Datasheet; ComponentLink2URL: http://www.national.com/ds/LM/LM21212-1.pdf; ComponentLink3Description: LM21212-1 Web Page; ComponentLink3URL: http://www.national.com/pf/LM/LM21212-1.html; ComponentLink4Description: MYB20AA Package Page; ComponentLink4URL: http://www.national.com/packaging/folders/myb20aa.html
footprint MYB20AA_N (TSOP, 20-Leads, Body 6.5x4.4mm, Pitch 0.65mm, Thermal Pad, IPC Medium Density)
footprint MYB20AA_L (TSOP, 20-Leads, Body 6.5x4.4mm, Pitch 0.65mm, Thermal Pad, IPC High Density)
footprint MYB20AA_M (TSOP, 20-Leads, Body 6.5x4.4mm, Pitch 0.65mm, Thermal Pad, IPC Low Density)
pins: 1 SYNC (in), 2 SS/TRK (in), 3 EN (in), 4 AVIN (power), 5 PVIN (power), 6 PVIN (power), 7 PVIN (power), 8 PGND (power), 9 PGND (power), 10 PGND (power), 11 SW (in), 12 SW (in), 13 SW (in), 14 SW (in), 15 SW (in), 16 SW (in), 17 PGOOD (oc), 18 COMP, 19 FB, 20 AGND (power), 21 EP (power)

## LM21212MH-2/NOPB
designator U?
12A High Efficiency Synchronous Buck Regulator with Adjustable Switching Frequency, 20-pin TSSOP-EP, 73 Rail; PartNumber: LM21212MH-2/NOPB; Manufacturer: National Semiconductor; PackageTopMarking: NSUZXYTT*LM21212*MH-2; PowerWise: Y; CompType: Switcher; DatasheetVersion: Mar-2011; PackageVersion: revD, 2011; PackageReference: MYB20AA; PackageDescription: 20-Pin eTSSOP, 6.5 x 4.4 mm Body ,0.65 mm Pitch, Exposed Pad; RoHS: Y; PinCount: 20; High-Reliability: Y; ComponentLink1Description: Manufacturer URL; ComponentLink1URL: http://www.national.com/; ComponentLink2Description: LM21212-2 Datasheet; ComponentLink2URL: http://www.national.com/ds/LM/LM21212-2.pdf; ComponentLink3Description: LM21212-2 Web Page; ComponentLink3URL: http://www.national.com/pf/LM/LM21212-2.html; ComponentLink4Description: MYB20AA Package Page; ComponentLink4URL: http://www.national.com/packaging/folders/myb20aa.html
footprint MYB20AA_N (TSOP, 20-Leads, Body 6.5x4.4mm, Pitch 0.65mm, Thermal Pad, IPC Medium Density)
footprint MYB20AA_L (TSOP, 20-Leads, Body 6.5x4.4mm, Pitch 0.65mm, Thermal Pad, IPC High Density)
footprint MYB20AA_M (TSOP, 20-Leads, Body 6.5x4.4mm, Pitch 0.65mm, Thermal Pad, IPC Low Density)
pins: 1 FADJ (in), 2 SS/TRK (in), 3 EN (in), 4 AVIN (power), 5 PVIN (power), 6 PVIN (power), 7 PVIN (power), 8 PGND (power), 9 PGND (power), 10 PGND (power), 11 SW (in), 12 SW (in), 13 SW (in), 14 SW (in), 15 SW (in), 16 SW (in), 17 PGOOD (oc), 18 COMP, 19 FB, 20 AGND (power), 21 EP (power)

## LM21212MHE-1/NOPB
designator U?
12A High Efficiency Synchronous Buck Regulator with Frequency Synchronization, 20-pin TSSOP-EP, 250 Reel; PartNumber: LM21212MHE-1/NOPB; Manufacturer: National Semiconductor; PackageTopMarking: NSUZXYTT*LM21212*MH-1; PowerWise: N; CompType: Switcher; High-Reliability: Y; DatasheetVersion: Feb-2011; PackageVersion: revD, 2011; PackageReference: MYB20AA; PackageDescription: 20-Pin eTSSOP, 6.5 x 4.4 mm Body ,0.65 mm Pitch, Exposed Pad; RoHS: Y; PinCount: 20; ComponentLink1Description: Manufacturer URL; ComponentLink1URL: http://www.national.com/; ComponentLink2Description: LM21212-1 Datasheet; ComponentLink2URL: http://www.national.com/ds/LM/LM21212-1.pdf; ComponentLink3Description: LM21212-1 Web Page; ComponentLink3URL: http://www.national.com/pf/LM/LM21212-1.html; ComponentLink4Description: MYB20AA Package Page; ComponentLink4URL: http://www.national.com/packaging/folders/myb20aa.html
footprint MYB20AA_N (TSOP, 20-Leads, Body 6.5x4.4mm, Pitch 0.65mm, Thermal Pad, IPC Medium Density)
footprint MYB20AA_L (TSOP, 20-Leads, Body 6.5x4.4mm, Pitch 0.65mm, Thermal Pad, IPC High Density)
footprint MYB20AA_M (TSOP, 20-Leads, Body 6.5x4.4mm, Pitch 0.65mm, Thermal Pad, IPC Low Density)
pins: 1 SYNC (in), 2 SS/TRK (in), 3 EN (in), 4 AVIN (power), 5 PVIN (power), 6 PVIN (power), 7 PVIN (power), 8 PGND (power), 9 PGND (power), 10 PGND (power), 11 SW (in), 12 SW (in), 13 SW (in), 14 SW (in), 15 SW (in), 16 SW (in), 17 PGOOD (oc), 18 COMP, 19 FB, 20 AGND (power), 21 EP (power)

## LM21212MHE-2/NOPB
designator U?
12A High Efficiency Synchronous Buck Regulator with Adjustable Switching Frequency, 20-pin TSSOP-EP, 250 Reel; PartNumber: LM21212MHE-2/NOPB; Manufacturer: National Semiconductor; PackageTopMarking: NSUZXYTT*LM21212*MH-2; PowerWise: Y; CompType: Switcher; DatasheetVersion: Mar-2011; PackageVersion: revD, 2011; PackageReference: MYB20AA; PackageDescription: 20-Pin eTSSOP, 6.5 x 4.4 mm Body ,0.65 mm Pitch, Exposed Pad; RoHS: Y; PinCount: 20; High-Reliability: Y; ComponentLink1Description: Manufacturer URL; ComponentLink1URL: http://www.national.com/; ComponentLink2Description: LM21212-2 Datasheet; ComponentLink2URL: http://www.national.com/ds/LM/LM21212-2.pdf; ComponentLink3Description: LM21212-2 Web Page; ComponentLink3URL: http://www.national.com/pf/LM/LM21212-2.html; ComponentLink4Description: MYB20AA Package Page; ComponentLink4URL: http://www.national.com/packaging/folders/myb20aa.html
footprint MYB20AA_N (TSOP, 20-Leads, Body 6.5x4.4mm, Pitch 0.65mm, Thermal Pad, IPC Medium Density)
footprint MYB20AA_L (TSOP, 20-Leads, Body 6.5x4.4mm, Pitch 0.65mm, Thermal Pad, IPC High Density)
footprint MYB20AA_M (TSOP, 20-Leads, Body 6.5x4.4mm, Pitch 0.65mm, Thermal Pad, IPC Low Density)
pins: 1 FADJ (in), 2 SS/TRK (in), 3 EN (in), 4 AVIN (power), 5 PVIN (power), 6 PVIN (power), 7 PVIN (power), 8 PGND (power), 9 PGND (power), 10 PGND (power), 11 SW (in), 12 SW (in), 13 SW (in), 14 SW (in), 15 SW (in), 16 SW (in), 17 PGOOD (oc), 18 COMP, 19 FB, 20 AGND (power), 21 EP (power)

## LM21212MHX-1/NOPB
designator U?
12A High Efficiency Synchronous Buck Regulator with Frequency Synchronization, 20-pin TSSOP-EP, 2500 Reel; PartNumber: LM21212MHX-1/NOPB; Manufacturer: National Semiconductor; PackageTopMarking: NSUZXYTT*LM21212*MH-1; PowerWise: Y; CompType: Switcher; DatasheetVersion: Feb-2011; PackageVersion: revD, 2011; PackageReference: MYB20AA; PackageDescription: 20-Pin eTSSOP, 6.5 x 4.4 mm Body ,0.65 mm Pitch, Exposed Pad; RoHS: Y; PinCount: 20; High-Reliability: Y; ComponentLink1Description: Manufacturer URL; ComponentLink1URL: http://www.national.com/; ComponentLink2Description: LM21212-1 Datasheet; ComponentLink2URL: http://www.national.com/ds/LM/LM21212-1.pdf; ComponentLink3Description: LM21212-1 Web Page; ComponentLink3URL: http://www.national.com/pf/LM/LM21212-1.html; ComponentLink4Description: MYB20AA Package Page; ComponentLink4URL: http://www.national.com/packaging/folders/myb20aa.html
footprint MYB20AA_N (TSOP, 20-Leads, Body 6.5x4.4mm, Pitch 0.65mm, Thermal Pad, IPC Medium Density)
footprint MYB20AA_L (TSOP, 20-Leads, Body 6.5x4.4mm, Pitch 0.65mm, Thermal Pad, IPC High Density)
footprint MYB20AA_M (TSOP, 20-Leads, Body 6.5x4.4mm, Pitch 0.65mm, Thermal Pad, IPC Low Density)
pins: 1 SYNC (in), 2 SS/TRK (in), 3 EN (in), 4 AVIN (power), 5 PVIN (power), 6 PVIN (power), 7 PVIN (power), 8 PGND (power), 9 PGND (power), 10 PGND (power), 11 SW (in), 12 SW (in), 13 SW (in), 14 SW (in), 15 SW (in), 16 SW (in), 17 PGOOD (oc), 18 COMP, 19 FB, 20 AGND (power), 21 EP (power)

## LM21212MHX-2/NOPB
designator U?
12A High Efficiency Synchronous Buck Regulator with Adjustable Switching Frequency, 20-pin TSSOP-EP, 2500 Reel; PartNumber: LM21212MHX-2/NOPB; Manufacturer: National Semiconductor; PackageTopMarking: NSUZXYTT*LM21212*MH-2; PowerWise: Y; CompType: Switcher; DatasheetVersion: Mar-2011; PackageVersion: revD, 2011; PackageReference: MYB20AA; PackageDescription: 20-Pin eTSSOP, 6.5 x 4.4 mm Body ,0.65 mm Pitch, Exposed Pad; RoHS: Y; PinCount: 20; High-Reliability: Y; ComponentLink1Description: Manufacturer URL; ComponentLink1URL: http://www.national.com/; ComponentLink2Description: LM21212-2 Datasheet; ComponentLink2URL: http://www.national.com/ds/LM/LM21212-2.pdf; ComponentLink3Description: LM21212-2 Web Page; ComponentLink3URL: http://www.national.com/pf/LM/LM21212-2.html; ComponentLink4Description: MYB20AA Package Page; ComponentLink4URL: http://www.national.com/packaging/folders/myb20aa.html
footprint MYB20AA_N (TSOP, 20-Leads, Body 6.5x4.4mm, Pitch 0.65mm, Thermal Pad, IPC Medium Density)
footprint MYB20AA_L (TSOP, 20-Leads, Body 6.5x4.4mm, Pitch 0.65mm, Thermal Pad, IPC High Density)
footprint MYB20AA_M (TSOP, 20-Leads, Body 6.5x4.4mm, Pitch 0.65mm, Thermal Pad, IPC Low Density)
pins: 1 FADJ (in), 2 SS/TRK (in), 3 EN (in), 4 AVIN (power), 5 PVIN (power), 6 PVIN (power), 7 PVIN (power), 8 PGND (power), 9 PGND (power), 10 PGND (power), 11 SW (in), 12 SW (in), 13 SW (in), 14 SW (in), 15 SW (in), 16 SW (in), 17 PGOOD (oc), 18 COMP, 19 FB, 20 AGND (power), 21 EP (power)

## LM21215AMH-1/NOPB
designator U?
15A High Efficiency Synchronous Buck Regulator with Frequency Synchronization, 20-pin TSSOP-EP, 73 Rail; PartNumber: LM21215AMH-1/NOPB; Manufacturer: National Semiconductor; PackageTopMarking: NSUZXYTT*LM21215*AMH-1; PowerWise: Y; CompType: Switcher; DatasheetVersion: Mar-2011; PackageVersion: revD, 2011; PackageReference: MYB20AA; PackageDescription: 20-Pin eTSSOP, 6.5 x 4.4 mm Body ,0.65 mm Pitch, Exposed Pad; RoHS: Y; PinCount: 20; High-Reliability: Y; ComponentLink1Description: Manufacturer URL; ComponentLink1URL: http://www.national.com/; ComponentLink2Description: LM21215A Datasheet; ComponentLink2URL: http://www.national.com/ds/LM/LM21215A.pdf; ComponentLink3Description: LM21215A Web Page; ComponentLink3URL: http://www.national.com/pf/LM/LM21215A.html; ComponentLink4Description: MYB20AA Package Page; ComponentLink4URL: http://www.national.com/packaging/folders/myb20aa.html
footprint MYB20AA_N (TSOP, 20-Leads, Body 6.5x4.4mm, Pitch 0.65mm, Thermal Pad, IPC Medium Density)
footprint MYB20AA_L (TSOP, 20-Leads, Body 6.5x4.4mm, Pitch 0.65mm, Thermal Pad, IPC High Density)
footprint MYB20AA_M (TSOP, 20-Leads, Body 6.5x4.4mm, Pitch 0.65mm, Thermal Pad, IPC Low Density)
pins: 1 SYNC (in), 2 SS/TRK (in), 3 EN (in), 4 AVIN (power), 5 PVIN (power), 6 PVIN (power), 7 PVIN (power), 8 PGND (power), 9 PGND (power), 10 PGND (power), 11 SW (power), 12 SW (power), 13 SW (power), 14 SW (power), 15 SW (power), 16 SW (power), 17 PGOOD (oc), 18 COMP, 19 FB (in), 20 AGND (power), 21 EP (power)

## LM21215AMHE-1/NOPB
designator U?
15A High Efficiency Synchronous Buck Regulator with Frequency Synchronization, 20-pin TSSOP-EP, 250 Reel; PartNumber: LM21215AMHE-1/NOPB; Manufacturer: National Semiconductor; PackageTopMarking: NSUZXYTT*LM21215*AMH-1; PowerWise: N; CompType: Switcher; High-Reliability: Y; DatasheetVersion: Mar-2011; PackageVersion: revD, 2011; PackageReference: MYB20AA; PackageDescription: 20-Pin eTSSOP, 6.5 x 4.4 mm Body ,0.65 mm Pitch, Exposed Pad; RoHS: Y; PinCount: 20; ComponentLink1Description: Manufacturer URL; ComponentLink1URL: http://www.national.com/; ComponentLink2Description: LM21215A Datasheet; ComponentLink2URL: http://www.national.com/ds/LM/LM21215A.pdf; ComponentLink3Description: LM21215A Web Page; ComponentLink3URL: http://www.national.com/pf/LM/LM21215A.html; ComponentLink4Description: MYB20AA Package Page; ComponentLink4URL: http://www.national.com/packaging/folders/myb20aa.html
footprint MYB20AA_N (TSOP, 20-Leads, Body 6.5x4.4mm, Pitch 0.65mm, Thermal Pad, IPC Medium Density)
footprint MYB20AA_L (TSOP, 20-Leads, Body 6.5x4.4mm, Pitch 0.65mm, Thermal Pad, IPC High Density)
footprint MYB20AA_M (TSOP, 20-Leads, Body 6.5x4.4mm, Pitch 0.65mm, Thermal Pad, IPC Low Density)
pins: 1 SYNC (in), 2 SS/TRK (in), 3 EN (in), 4 AVIN (power), 5 PVIN (power), 6 PVIN (power), 7 PVIN (power), 8 PGND (power), 9 PGND (power), 10 PGND (power), 11 SW (power), 12 SW (power), 13 SW (power), 14 SW (power), 15 SW (power), 16 SW (power), 17 PGOOD (oc), 18 COMP, 19 FB (in), 20 AGND (power), 21 EP (power)

## LM21215AMHX-1/NOPB
designator U?
15A High Efficiency Synchronous Buck Regulator with Frequency Synchronization, 20-pin TSSOP-EP, 2500 Reel; PartNumber: LM21215AMHX-1/NOPB; Manufacturer: National Semiconductor; PackageTopMarking: NSUZXYTT*LM21215*AMH-1; PowerWise: Y; CompType: Switcher; DatasheetVersion: Mar-2011; PackageVersion: revD, 2011; PackageReference: MYB20AA; PackageDescription: 20-Pin eTSSOP, 6.5 x 4.4 mm Body ,0.65 mm Pitch, Exposed Pad; RoHS: Y; PinCount: 20; High-Reliability: Y; ComponentLink1Description: Manufacturer URL; ComponentLink1URL: http://www.national.com/; ComponentLink2Description: LM21215A Datasheet; ComponentLink2URL: http://www.national.com/ds/LM/LM21215A.pdf; ComponentLink3Description: LM21215A Web Page; ComponentLink3URL: http://www.national.com/pf/LM/LM21215A.html; ComponentLink4Description: MYB20AA Package Page; ComponentLink4URL: http://www.national.com/packaging/folders/myb20aa.html
footprint MYB20AA_N (TSOP, 20-Leads, Body 6.5x4.4mm, Pitch 0.65mm, Thermal Pad, IPC Medium Density)
footprint MYB20AA_L (TSOP, 20-Leads, Body 6.5x4.4mm, Pitch 0.65mm, Thermal Pad, IPC High Density)
footprint MYB20AA_M (TSOP, 20-Leads, Body 6.5x4.4mm, Pitch 0.65mm, Thermal Pad, IPC Low Density)
pins: 1 SYNC (in), 2 SS/TRK (in), 3 EN (in), 4 AVIN (power), 5 PVIN (power), 6 PVIN (power), 7 PVIN (power), 8 PGND (power), 9 PGND (power), 10 PGND (power), 11 SW (power), 12 SW (power), 13 SW (power), 14 SW (power), 15 SW (power), 16 SW (power), 17 PGOOD (oc), 18 COMP, 19 FB (in), 20 AGND (power), 21 EP (power)

## LM21215MH/NOPB
designator U?
15A High Efficiency Synchronous Buck Regulator, 20-pin TSSOP-EP, 73 Rail; PartNumber: LM21215MH/NOPB; Manufacturer: National Semiconductor; PackageTopMarking: NSUZXYTT*LM21215*MH; PowerWise: Y; CompType: Switcher; DatasheetVersion: Feb-2011; PackageVersion: revD, 2011; PackageReference: MYB20AA; PackageDescription: 20-Pin eTSSOP, 6.5 x 4.4 mm Body ,0.65 mm Pitch, Exposed Pad; RoHS: Y; PinCount: 20; High-Reliability: Y; ComponentLink1Description: Manufacturer URL; ComponentLink1URL: http://www.national.com/; ComponentLink2Description: LM21215 Datasheet; ComponentLink2URL: http://www.national.com/ds/LM/LM21215.pdf; ComponentLink3Description: LM21215 Web Page; ComponentLink3URL: http://www.national.com/pf/LM/LM21215.html; ComponentLink4Description: MYB20AA Package Page; ComponentLink4URL: http://www.national.com/packaging/folders/myb20aa.html
footprint MYB20AA_N (TSOP, 20-Leads, Body 6.5x4.4mm, Pitch 0.65mm, Thermal Pad, IPC Medium Density)
footprint MYB20AA_L (TSOP, 20-Leads, Body 6.5x4.4mm, Pitch 0.65mm, Thermal Pad, IPC High Density)
footprint MYB20AA_M (TSOP, 20-Leads, Body 6.5x4.4mm, Pitch 0.65mm, Thermal Pad, IPC Low Density)
pins: 1 ILIM (in), 2 SS/TRK (in), 3 EN (in), 4 AVIN (power), 5 PVIN (power), 6 PVIN (power), 7 PVIN (power), 8 PGND (power), 9 PGND (power), 10 PGND (power), 11 SW (power), 12 SW (power), 13 SW (power), 14 SW (power), 15 SW (power), 16 SW (power), 17 PGOOD (oc), 18 COMP, 19 FB (in), 20 AGND (power), 21 EP (power)

## LM21215MHE/NOPB
designator U?
15A High Efficiency Synchronous Buck Regulator, 20-pin TSSOP-EP, 250 Reel; PartNumber: LM21215MHE/NOPB; Manufacturer: National Semiconductor; PackageTopMarking: NSUZXYTT*LM21215*MH; PowerWise: N; CompType: Switcher; High-Reliability: Y; DatasheetVersion: Feb-2011; PackageVersion: revD, 2011; PackageReference: MYB20AA; PackageDescription: 20-Pin eTSSOP, 6.5 x 4.4 mm Body ,0.65 mm Pitch, Exposed Pad; RoHS: Y; PinCount: 20; ComponentLink1Description: Manufacturer URL; ComponentLink1URL: http://www.national.com/; ComponentLink2Description: LM21215 Datasheet; ComponentLink2URL: http://www.national.com/ds/LM/LM21215.pdf; ComponentLink3Description: LM21215 Web Page; ComponentLink3URL: http://www.national.com/pf/LM/LM21215.html; ComponentLink4Description: MYB20AA Package Page; ComponentLink4URL: http://www.national.com/packaging/folders/myb20aa.html
footprint MYB20AA_N (TSOP, 20-Leads, Body 6.5x4.4mm, Pitch 0.65mm, Thermal Pad, IPC Medium Density)
footprint MYB20AA_L (TSOP, 20-Leads, Body 6.5x4.4mm, Pitch 0.65mm, Thermal Pad, IPC High Density)
footprint MYB20AA_M (TSOP, 20-Leads, Body 6.5x4.4mm, Pitch 0.65mm, Thermal Pad, IPC Low Density)
pins: 1 ILIM (in), 2 SS/TRK (in), 3 EN (in), 4 AVIN (power), 5 PVIN (power), 6 PVIN (power), 7 PVIN (power), 8 PGND (power), 9 PGND (power), 10 PGND (power), 11 SW (power), 12 SW (power), 13 SW (power), 14 SW (power), 15 SW (power), 16 SW (power), 17 PGOOD (oc), 18 COMP, 19 FB (in), 20 AGND (power), 21 EP (power)

## LM21215MHX/NOPB
designator U?
15A High Efficiency Synchronous Buck Regulator, 20-pin TSSOP-EP, 2500 Reel; PartNumber: LM21215MHX/NOPB; Manufacturer: National Semiconductor; PackageTopMarking: NSUZXYTT*LM21215*MH; PowerWise: Y; CompType: Switcher; DatasheetVersion: Feb-2011; PackageVersion: revD, 2011; PackageReference: MYB20AA; PackageDescription: 20-Pin eTSSOP, 6.5 x 4.4 mm Body ,0.65 mm Pitch, Exposed Pad; RoHS: Y; PinCount: 20; High-Reliability: Y; ComponentLink1Description: Manufacturer URL; ComponentLink1URL: http://www.national.com/; ComponentLink2Description: LM21215 Datasheet; ComponentLink2URL: http://www.national.com/ds/LM/LM21215.pdf; ComponentLink3Description: LM21215 Web Page; ComponentLink3URL: http://www.national.com/pf/LM/LM21215.html; ComponentLink4Description: MYB20AA Package Page; ComponentLink4URL: http://www.national.com/packaging/folders/myb20aa.html
footprint MYB20AA_N (TSOP, 20-Leads, Body 6.5x4.4mm, Pitch 0.65mm, Thermal Pad, IPC Medium Density)
footprint MYB20AA_L (TSOP, 20-Leads, Body 6.5x4.4mm, Pitch 0.65mm, Thermal Pad, IPC High Density)
footprint MYB20AA_M (TSOP, 20-Leads, Body 6.5x4.4mm, Pitch 0.65mm, Thermal Pad, IPC Low Density)
pins: 1 ILIM (in), 2 SS/TRK (in), 3 EN (in), 4 AVIN (power), 5 PVIN (power), 6 PVIN (power), 7 PVIN (power), 8 PGND (power), 9 PGND (power), 10 PGND (power), 11 SW (power), 12 SW (power), 13 SW (power), 14 SW (power), 15 SW (power), 16 SW (power), 17 PGOOD (oc), 18 COMP, 19 FB (in), 20 AGND (power), 21 EP (power)

## LM21305SQ/NOPB
designator U?
5A Adjustable Frequency Synchronous Buck Regulator, 28-pin LLP, 1000 Reel; PartNumber: LM21305SQ/NOPB; Manufacturer: National Semiconductor; PackageTopMarking: NS*UZXYTT*21305SQ; PowerWise: Y; CompType: Switcher; DatasheetVersion: Sep-2011; PackageVersion: revB, Sep-2008; PackageReference: SQA28B; PackageDescription: LLP, Quad, 5 x 5 x 0.8mm Body, 28 Lead, 0.5mm Pitch, No Pullback, 2.8 x 2.8 mm Exposed Pad; RoHS: Y; PinCount: 28; High-Reliability: Y; Code_JEDEC: MO-220-WHHD-1; ComponentLink1Description: Manufacturer URL; ComponentLink1URL: http://www.national.com/; ComponentLink2Description: LM21305 Datasheet; ComponentLink2URL: http://www.national.com/ds/LM/LM21305.pdf; ComponentLink3Description: LM21305 Web Page; ComponentLink3URL: http://www.national.com/pf/LM/LM21305.html; ComponentLink4Description: SQA28B Package Page; ComponentLink4URL: http://www.national.com/packaging/folders/sqa28b.html
footprint SQA28B (QFN, 29-Leads, Body 5x5mm, Pitch 0.5mm, Thermal Pad 2.8x2.8mm, NSC Recommended)
pins: 1 PVIN (power), 2 PVIN (power), 3 SW (power), 4 SW (power), 5 SW (power), 6 SW (power), 7 PGND (power), 8 PGND (power), 9 PGND (power), 10 PGND (power), 11 COMP, 12 PGOOD (oc), 13 FB (in), 14 AGND (power), 15 EN (in), 16 FREQ (in), 17 AGND (power), 18 AGND (power), 19 AGND (power), 20 AGND (power), 21 2V5 (out), 22 AVIN (power), 23 AVIN (power), 24 AGND (power), 25 5V0 (out), 26 CBOOT, 27 PVIN (power), 28 PVIN (power), 29 DAP (power)

## LM21305SQE/NOPB
designator U?
5A Adjustable Frequency Synchronous Buck Regulator, 28-pin LLP, 250 Reel; PartNumber: LM21305SQE/NOPB; Manufacturer: National Semiconductor; PackageTopMarking: NS*UZXYTT*21305SQ; PowerWise: N; CompType: Switcher; High-Reliability: Y; DatasheetVersion: Sep-2011; PackageVersion: revB, Sep-2008; PackageReference: SQA28B; PackageDescription: LLP, Quad, 5 x 5 x 0.8mm Body, 28 Lead, 0.5mm Pitch, No Pullback, 2.8 x 2.8 mm Exposed Pad; RoHS: Y; PinCount: 28; Code_JEDEC: MO-220-WHHD-1; ComponentLink1Description: Manufacturer URL; ComponentLink1URL: http://www.national.com/; ComponentLink2Description: LM21305 Datasheet; ComponentLink2URL: http://www.national.com/ds/LM/LM21305.pdf; ComponentLink3Description: LM21305 Web Page; ComponentLink3URL: http://www.national.com/pf/LM/LM21305.html; ComponentLink4Description: SQA28B Package Page; ComponentLink4URL: http://www.national.com/packaging/folders/sqa28b.html
footprint SQA28B (QFN, 29-Leads, Body 5x5mm, Pitch 0.5mm, Thermal Pad 2.8x2.8mm, NSC Recommended)
pins: 1 PVIN (power), 2 PVIN (power), 3 SW (power), 4 SW (power), 5 SW (power), 6 SW (power), 7 PGND (power), 8 PGND (power), 9 PGND (power), 10 PGND (power), 11 COMP, 12 PGOOD (oc), 13 FB (in), 14 AGND (power), 15 EN (in), 16 FREQ (in), 17 AGND (power), 18 AGND (power), 19 AGND (power), 20 AGND (power), 21 2V5 (out), 22 AVIN (power), 23 AVIN (power), 24 AGND (power), 25 5V0 (out), 26 CBOOT, 27 PVIN (power), 28 PVIN (power), 29 DAP (power)

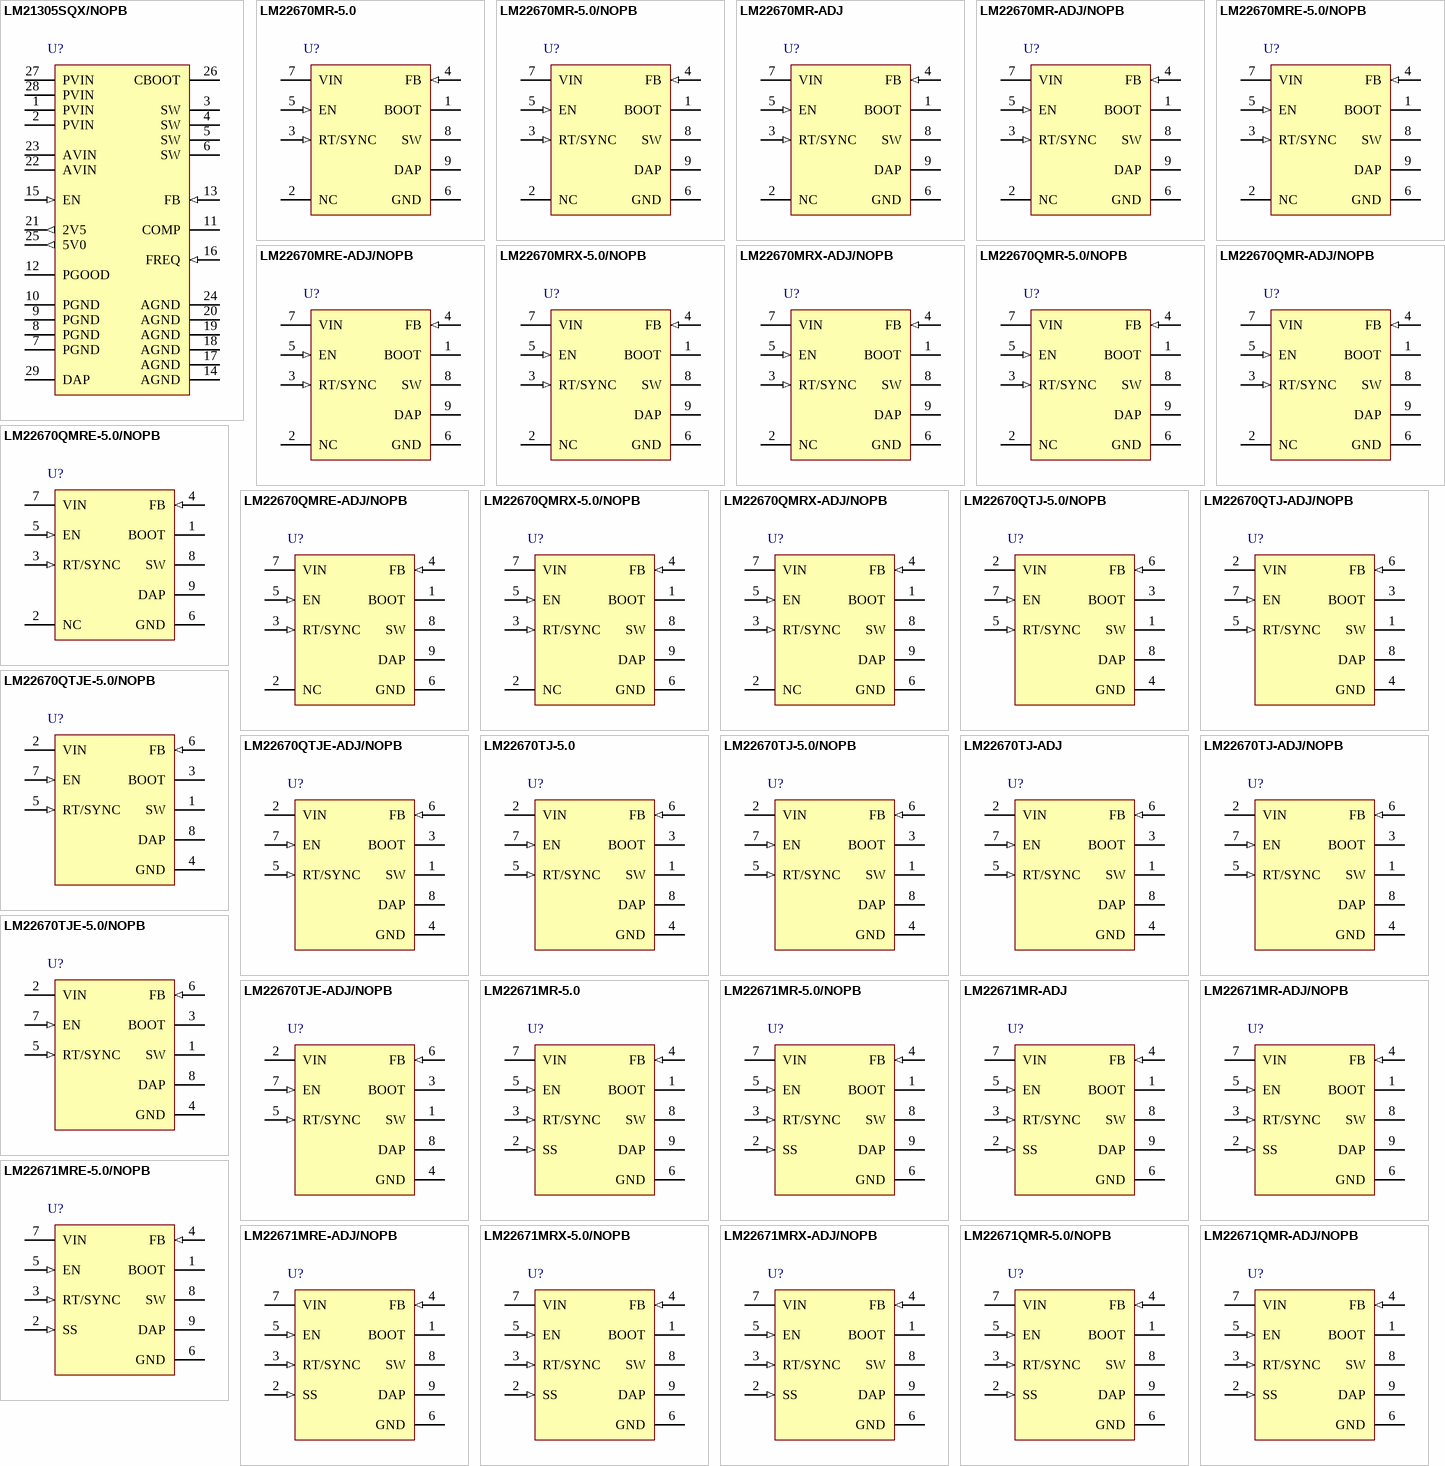
[diagram p51: symbols LM21305SQX/NOPB to LM22671QMR-ADJ/NOPB]